# Altium integrated library Linear Technology Power Management LED Driver ICs.IntLib: 490 symbols (part 3 of 48)
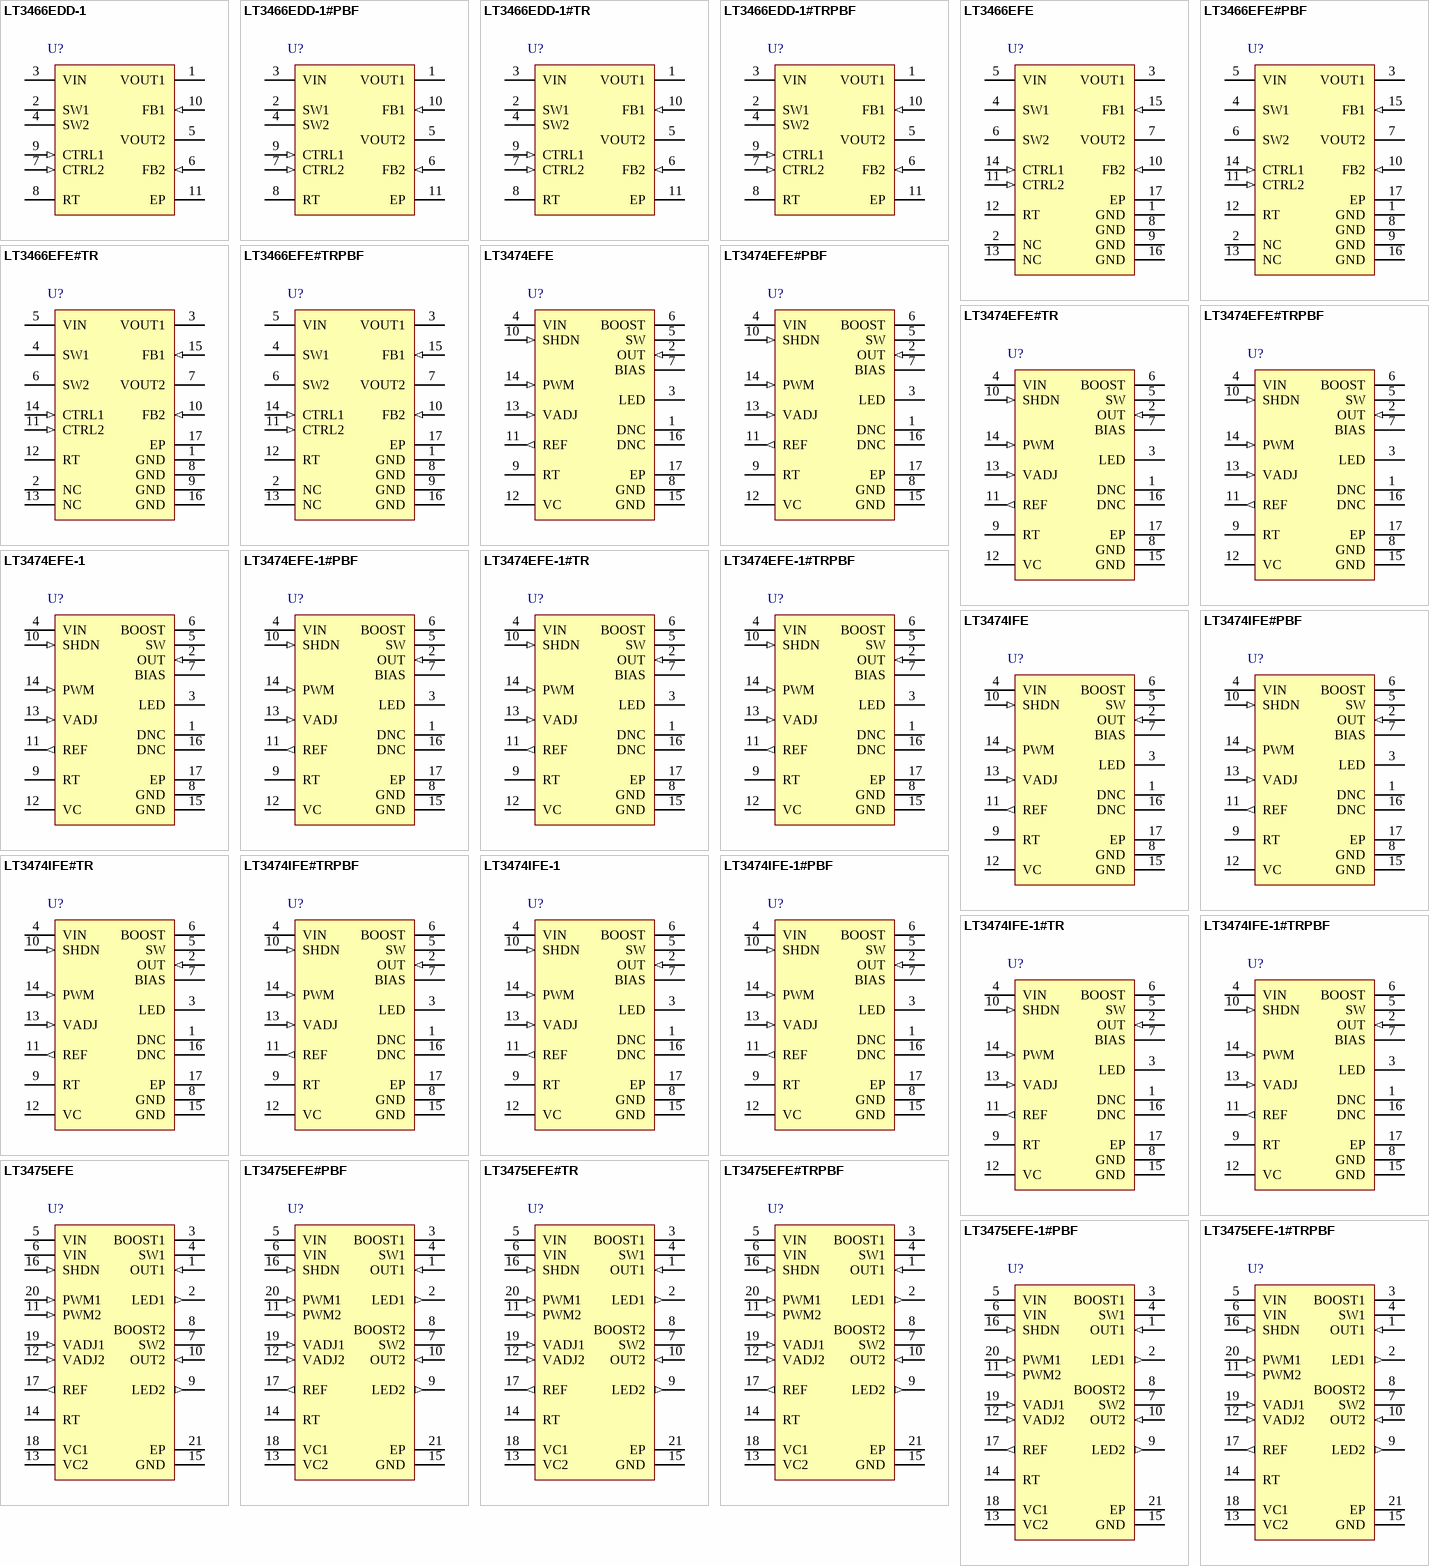
[diagram p22: symbols LT3466EDD-1 to LT3475EFE-1#TRPBF]

## LT3466EFE#PBF
designator U?
Dual Outputs / Integrated Schottky, Soft-Start, 2.7 to 24 V Vin, 39.5 V Vout MAX, 16-pin SOP (FE-16-EPV-BB), -40 to 85 degC, Pb-Free; Manufacturer: Linear Technology; PartNumber: LT3466EFE#PBF; Topology: Boost, LED Driver; Vin Min(V): 2.7; DatasheetVersion: Rev. A; PackageVersion: Rev. J, 11/2012; PackageReference: FE-16; PackageDescription: 16-Pin Plastic TSSOP, Body 5 x 4.4 mm, Pitch 0.65 mm; Supplier 1: Digi-Key; Supplier Part Number 1: LT3466EFE#PBF-ND; Supplier 2: Farnell; Supplier Part Number 2: 1226270; Supplier 3: Newark; Supplier Part Number 3: 57M8212; RoHS: TRUE; Mounting Technology: Surface Mount; ComponentLink1Description: Manufacturer URL; ComponentLink1URL: http://www.linear.com/; ComponentLink2Description: Datasheet; ComponentLink2URL: http://cds.linear.com/docs/en/datasheet/3466fa.pdf; ComponentLink3Description: Package Specification; ComponentLink3URL: http://cds.linear.com/docs/en/packaging/05081663__J_FE16(BB).pdf
footprint LT-FE-16-EPV-BB_N (SOP, 16-Leads, Body 5.1x4.5mm, Pitch 0.65mm, Thermal Pad 3.58x2.94mm, IPC Medium Density)
footprint LT-FE-16-EPV-BB_L (SOP, 16-Leads, Body 5.1x4.5mm, Pitch 0.65mm, Thermal Pad 3.58x2.94mm, IPC High Density)
footprint LT-FE-16-EPV-BB_M (SOP, 16-Leads, Body 5.1x4.5mm, Pitch 0.65mm, Thermal Pad 3.58x2.94mm, IPC Low Density)
pins: 1 GND (power) "These pins are internally fused to the Exposed Pad (TSSOP package only). Connect these GND pins and the Exposed Pad to the PCB system ground.", 2 NC, 3 VOUT1 (power) "Output of Converter 1. This pin is connected to the cathode of the internal Schottky diode. Connect an output capacitor from this pin to ground.", 4 SW1 "Switch Pin for Converter 1. Connect the inductor at this pin.", 5 VIN (power) "Input Supply Pin. Must be locally bypassed with a 1uF, X5R or X7R type ceramic capacitor.", 6 SW2 "Switch Pin for Converter 2. Connect the inductor at this pin.", 7 VOUT2 (power) "Output of Converter 2. This pin is connected to the cathode of the internal Schottky diode. Connect an output capacitor from this pin to ground.", 8 GND (power) "These pins are internally fused to the Exposed Pad (TSSOP package only). Connect these GND pins and the Exposed Pad to the PCB system ground.", 9 GND (power) "These pins are internally fused to the Exposed Pad (TSSOP package only). Connect these GND pins and the Exposed Pad to the PCB system ground.", 10 FB2 (in) "Feedback Pin for Converter 2. The nominal voltage at this pin is 200mV. Connect cathode of the lowest LED and the feedback resisitor at this pin.", 11 CTRL2 (in) "Dimming and Shutdown Pin for Converter 2. Connect this pin to ground to disable the converter. As the pin voltage is ramped from 0V to 1.6V, the LED current ramps from 0 to ILED2 (= 200mV/RFB2). Any voltage above 1.6V does (See Datasheet)", 12 RT "Timing Resistor to Program the Switching Frequency. The switching frequency can be programmed from 200KHz to 2MHz.", 13 NC, 14 CTRL1 (in) "Dimming and Shutdown Pin for Converter 1. Connect this pin to ground to disable the converter. As the pin voltage is ramped from 0V to 1.6V, the LED current ramps from 0 to ILED1 (= 200mV/RFB1). Any voltage above 1.6V does (See Datasheet)", 15 FB1 (in) "Feedback Pin for Converter 1. The nominal voltage at this pin is 200mV. Connect cathode of the lowest LED and the feedback resistor at this pin.", 16 GND (power) "These pins are internally fused to the Exposed Pad (TSSOP package only). Connect these GND pins and the Exposed Pad to the PCB system ground.", 17 EP (power) "The Exposed Pad must be soldered to the PCB system ground."

## LT3466EFE#TR
designator U?
Dual Outputs / Integrated Schottky, Soft-Start, 2.7 to 24 V Vin, 39.5 V Vout MAX, 16-pin SOP (FE-16-EPV-BB), -40 to 85 degC, Tape and Reel; Manufacturer: Linear Technology; PartNumber: LT3466EFE#TR; Topology: Boost, LED Driver; Vin Min(V): 2.7; DatasheetVersion: Rev. A; PackageVersion: Rev. J, 11/2012; PackageReference: FE-16; PackageDescription: 16-Pin Plastic TSSOP, Body 5 x 4.4 mm, Pitch 0.65 mm; Packing: Tape and Reel; RoHS: FALSE; Mounting Technology: Surface Mount; ComponentLink1Description: Manufacturer URL; ComponentLink1URL: http://www.linear.com/; ComponentLink2Description: Datasheet; ComponentLink2URL: http://cds.linear.com/docs/en/datasheet/3466fa.pdf; ComponentLink3Description: Package Specification; ComponentLink3URL: http://cds.linear.com/docs/en/packaging/05081663__J_FE16(BB).pdf
footprint LT-FE-16-EPV-BB_N (SOP, 16-Leads, Body 5.1x4.5mm, Pitch 0.65mm, Thermal Pad 3.58x2.94mm, IPC Medium Density)
footprint LT-FE-16-EPV-BB_L (SOP, 16-Leads, Body 5.1x4.5mm, Pitch 0.65mm, Thermal Pad 3.58x2.94mm, IPC High Density)
footprint LT-FE-16-EPV-BB_M (SOP, 16-Leads, Body 5.1x4.5mm, Pitch 0.65mm, Thermal Pad 3.58x2.94mm, IPC Low Density)
pins: 1 GND (power) "These pins are internally fused to the Exposed Pad (TSSOP package only). Connect these GND pins and the Exposed Pad to the PCB system ground.", 2 NC, 3 VOUT1 (power) "Output of Converter 1. This pin is connected to the cathode of the internal Schottky diode. Connect an output capacitor from this pin to ground.", 4 SW1 "Switch Pin for Converter 1. Connect the inductor at this pin.", 5 VIN (power) "Input Supply Pin. Must be locally bypassed with a 1uF, X5R or X7R type ceramic capacitor.", 6 SW2 "Switch Pin for Converter 2. Connect the inductor at this pin.", 7 VOUT2 (power) "Output of Converter 2. This pin is connected to the cathode of the internal Schottky diode. Connect an output capacitor from this pin to ground.", 8 GND (power) "These pins are internally fused to the Exposed Pad (TSSOP package only). Connect these GND pins and the Exposed Pad to the PCB system ground.", 9 GND (power) "These pins are internally fused to the Exposed Pad (TSSOP package only). Connect these GND pins and the Exposed Pad to the PCB system ground.", 10 FB2 (in) "Feedback Pin for Converter 2. The nominal voltage at this pin is 200mV. Connect cathode of the lowest LED and the feedback resisitor at this pin.", 11 CTRL2 (in) "Dimming and Shutdown Pin for Converter 2. Connect this pin to ground to disable the converter. As the pin voltage is ramped from 0V to 1.6V, the LED current ramps from 0 to ILED2 (= 200mV/RFB2). Any voltage above 1.6V does (See Datasheet)", 12 RT "Timing Resistor to Program the Switching Frequency. The switching frequency can be programmed from 200KHz to 2MHz.", 13 NC, 14 CTRL1 (in) "Dimming and Shutdown Pin for Converter 1. Connect this pin to ground to disable the converter. As the pin voltage is ramped from 0V to 1.6V, the LED current ramps from 0 to ILED1 (= 200mV/RFB1). Any voltage above 1.6V does (See Datasheet)", 15 FB1 (in) "Feedback Pin for Converter 1. The nominal voltage at this pin is 200mV. Connect cathode of the lowest LED and the feedback resistor at this pin.", 16 GND (power) "These pins are internally fused to the Exposed Pad (TSSOP package only). Connect these GND pins and the Exposed Pad to the PCB system ground.", 17 EP (power) "The Exposed Pad must be soldered to the PCB system ground."

## LT3466EFE#TRPBF
designator U?
Dual Outputs / Integrated Schottky, Soft-Start, 2.7 to 24 V Vin, 39.5 V Vout MAX, 16-pin SOP (FE-16-EPV-BB), -40 to 85 degC, Pb-Free, Tape and Reel; Manufacturer: Linear Technology; PartNumber: LT3466EFE#TRPBF; Topology: Boost, LED Driver; Vin Min(V): 2.7; DatasheetVersion: Rev. A; PackageVersion: Rev. J, 11/2012; PackageReference: FE-16; PackageDescription: 16-Pin Plastic TSSOP, Body 5 x 4.4 mm, Pitch 0.65 mm; Supplier 1: Digi-Key; Supplier Part Number 1: LT3466EFE#TRPBF-ND; Supplier 2: Newark; Supplier Part Number 2: 57M8214; Packing: Tape and Reel; RoHS: TRUE; Mounting Technology: Surface Mount; ComponentLink1Description: Manufacturer URL; ComponentLink1URL: http://www.linear.com/; ComponentLink2Description: Datasheet; ComponentLink2URL: http://cds.linear.com/docs/en/datasheet/3466fa.pdf; ComponentLink3Description: Package Specification; ComponentLink3URL: http://cds.linear.com/docs/en/packaging/05081663__J_FE16(BB).pdf
footprint LT-FE-16-EPV-BB_N (SOP, 16-Leads, Body 5.1x4.5mm, Pitch 0.65mm, Thermal Pad 3.58x2.94mm, IPC Medium Density)
footprint LT-FE-16-EPV-BB_L (SOP, 16-Leads, Body 5.1x4.5mm, Pitch 0.65mm, Thermal Pad 3.58x2.94mm, IPC High Density)
footprint LT-FE-16-EPV-BB_M (SOP, 16-Leads, Body 5.1x4.5mm, Pitch 0.65mm, Thermal Pad 3.58x2.94mm, IPC Low Density)
pins: 1 GND (power) "These pins are internally fused to the Exposed Pad (TSSOP package only). Connect these GND pins and the Exposed Pad to the PCB system ground.", 2 NC, 3 VOUT1 (power) "Output of Converter 1. This pin is connected to the cathode of the internal Schottky diode. Connect an output capacitor from this pin to ground.", 4 SW1 "Switch Pin for Converter 1. Connect the inductor at this pin.", 5 VIN (power) "Input Supply Pin. Must be locally bypassed with a 1uF, X5R or X7R type ceramic capacitor.", 6 SW2 "Switch Pin for Converter 2. Connect the inductor at this pin.", 7 VOUT2 (power) "Output of Converter 2. This pin is connected to the cathode of the internal Schottky diode. Connect an output capacitor from this pin to ground.", 8 GND (power) "These pins are internally fused to the Exposed Pad (TSSOP package only). Connect these GND pins and the Exposed Pad to the PCB system ground.", 9 GND (power) "These pins are internally fused to the Exposed Pad (TSSOP package only). Connect these GND pins and the Exposed Pad to the PCB system ground.", 10 FB2 (in) "Feedback Pin for Converter 2. The nominal voltage at this pin is 200mV. Connect cathode of the lowest LED and the feedback resisitor at this pin.", 11 CTRL2 (in) "Dimming and Shutdown Pin for Converter 2. Connect this pin to ground to disable the converter. As the pin voltage is ramped from 0V to 1.6V, the LED current ramps from 0 to ILED2 (= 200mV/RFB2). Any voltage above 1.6V does (See Datasheet)", 12 RT "Timing Resistor to Program the Switching Frequency. The switching frequency can be programmed from 200KHz to 2MHz.", 13 NC, 14 CTRL1 (in) "Dimming and Shutdown Pin for Converter 1. Connect this pin to ground to disable the converter. As the pin voltage is ramped from 0V to 1.6V, the LED current ramps from 0 to ILED1 (= 200mV/RFB1). Any voltage above 1.6V does (See Datasheet)", 15 FB1 (in) "Feedback Pin for Converter 1. The nominal voltage at this pin is 200mV. Connect cathode of the lowest LED and the feedback resistor at this pin.", 16 GND (power) "These pins are internally fused to the Exposed Pad (TSSOP package only). Connect these GND pins and the Exposed Pad to the PCB system ground.", 17 EP (power) "The Exposed Pad must be soldered to the PCB system ground."

## LT3474EFE
designator U?
Step-Down 1 A LED Driver with Open Circuit Protection, 4 to 36 V Vin, 15 V Vout MAX, 16-pin SOP (FE-16-EPV-BA), -40 to 85 degC; Manufacturer: Linear Technology; PartNumber: LT3474EFE; Topology: Buck, LED Driver; Vin Min(V): 4; DatasheetVersion: Rev. D; PackageVersion: Rev. I, 05/2011; PackageReference: FE-16; PackageDescription: 16-Pin Plastic TSSOP, Body 5 x 4.4 mm, Pitch 0.65 mm; RoHS: FALSE; Mounting Technology: Surface Mount; ComponentLink1Description: Manufacturer URL; ComponentLink1URL: http://www.linear.com/; ComponentLink2Description: Datasheet; ComponentLink2URL: http://cds.linear.com/docs/en/datasheet/3474fd.pdf; ComponentLink3Description: Package Specification; ComponentLink3URL: http://cds.linear.com/docs/en/packaging/05081663_J_FE16(BA).pdf
footprint LT-FE-16-EPV-BA_N (SOP, 16-Leads, Body 5x4.4mm, Pitch 0.65mm, Thermal Pad 2.74x2.74mm, IPC Medium Density)
footprint LT-FE-16-EPV-BA_L (SOP, 16-Leads, Body 5x4.4mm, Pitch 0.65mm, Thermal Pad 2.74x2.74mm, IPC High Density)
footprint LT-FE-16-EPV-BA_M (SOP, 16-Leads, Body 5x4.4mm, Pitch 0.65mm, Thermal Pad 2.74x2.74mm, IPC Low Density)
pins: 1 DNC "Do not connect external circuitry to these pins, or tie them to GND. Leave the DNC pins floating.", 2 OUT (in) "The OUT pin is the input to the current sense resistor. Connect this pin to the inductor and the output capacitor.", 3 LED (power) "The LED pin is the output of the current sense resistor. Connect the anode of the LED here.", 4 VIN (power) "The VIN pin supplies current to the internal circuitry and to the internal power switch and must be locally bypassed.", 5 SW (power) "The SW pin is the output of the internal power switch. Connect this pin to the inductor and switching diode.", 6 BOOST "The BOOST pin is used to provide a drive voltage, higher than the input voltage, to the internal bipolar NPN power switch.", 7 BIAS (power) "The BIAS pin connects through a Schottky diode to BOOST. Tie to OUT.", 8 GND (power) "Ground. Tie both GND pins and the Exposed Pad directly to the ground plane. The Exposed Pad metal of the package provides both electrical contact to ground and good thermal contact to the printed circuit board. It must be (See Datasheet)", 9 RT "The RT pin is used to set the internal oscillator frequency. Tie an 80.6k resistor from RT to GND for a 500kHz switching frequency", 10 SHDN (in) "The SHDN pin is used to shut down the switching regulator and the internal bias circuits. The 2.6V switching threshold can function as an accurate under-voltage lockout. Pull below 0.3V to shut down the LT3474/LT3474-1. Pull (See Datasheet)", 11 REF (out) "The REF pin is the buffered output of the internal reference. Either tie the REF pin to the VADJ pin for a 1A output current, or use a resistor divider to generate a lower voltage at the VADJ pin. Leave this pin unconnected (See Datasheet)", 12 VC "The Vc pin is the output of the internal error amp. The voltage on this pin controls the peak switch current. Use this pin to compensate the control loop.", 13 VADJ (in) "The VADJ pin is the input to the internal voltage to current amplifier. Connect the VADJ pin to the REF pin for a 1A output current. For lower output currents, program the VADJ pin using the following formula: ILED = 1A ?(See Datasheet)", 14 PWM (in) "The PWM pin controls the connection of the VC pin to the internal circuitry. When the PWM pin is low, the VC pin is disconnected from the internal circuitry and draws minimal current. If the PWM feature is unused, leave this (See Datasheet)", 15 GND (power) "Ground. Tie both GND pins and the Exposed Pad directly to the ground plane. The Exposed Pad metal of the package provides both electrical contact to ground and good thermal contact to the printed circuit board. It must be (See Datasheet)", 16 DNC "Do not connect external circuitry to these pins, or tie them to GND. Leave the DNC pins floating.", 17 EP (power)

## LT3474EFE#PBF
designator U?
Step-Down 1 A LED Driver with Open Circuit Protection, 4 to 36 V Vin, 15 V Vout MAX, 16-pin SOP (FE-16-EPV-BA), -40 to 85 degC, Pb-Free; Manufacturer: Linear Technology; PartNumber: LT3474EFE#PBF; Topology: Buck, LED Driver; Vin Min(V): 4; DatasheetVersion: Rev. D; PackageVersion: Rev. I, 05/2011; PackageReference: FE-16; PackageDescription: 16-Pin Plastic TSSOP, Body 5 x 4.4 mm, Pitch 0.65 mm; Supplier 1: Digi-Key; Supplier Part Number 1: LT3474EFE#PBF-ND; Supplier 2: Farnell; Supplier Part Number 2: 1226271; Supplier 3: Newark; Supplier Part Number 3: 57M8286; RoHS: TRUE; Mounting Technology: Surface Mount; ComponentLink1Description: Manufacturer URL; ComponentLink1URL: http://www.linear.com/; ComponentLink2Description: Datasheet; ComponentLink2URL: http://cds.linear.com/docs/en/datasheet/3474fd.pdf; ComponentLink3Description: Package Specification; ComponentLink3URL: http://cds.linear.com/docs/en/packaging/05081663_J_FE16(BA).pdf
footprint LT-FE-16-EPV-BA_N (SOP, 16-Leads, Body 5x4.4mm, Pitch 0.65mm, Thermal Pad 2.74x2.74mm, IPC Medium Density)
footprint LT-FE-16-EPV-BA_L (SOP, 16-Leads, Body 5x4.4mm, Pitch 0.65mm, Thermal Pad 2.74x2.74mm, IPC High Density)
footprint LT-FE-16-EPV-BA_M (SOP, 16-Leads, Body 5x4.4mm, Pitch 0.65mm, Thermal Pad 2.74x2.74mm, IPC Low Density)
pins: 1 DNC "Do not connect external circuitry to these pins, or tie them to GND. Leave the DNC pins floating.", 2 OUT (in) "The OUT pin is the input to the current sense resistor. Connect this pin to the inductor and the output capacitor.", 3 LED (power) "The LED pin is the output of the current sense resistor. Connect the anode of the LED here.", 4 VIN (power) "The VIN pin supplies current to the internal circuitry and to the internal power switch and must be locally bypassed.", 5 SW (power) "The SW pin is the output of the internal power switch. Connect this pin to the inductor and switching diode.", 6 BOOST "The BOOST pin is used to provide a drive voltage, higher than the input voltage, to the internal bipolar NPN power switch.", 7 BIAS (power) "The BIAS pin connects through a Schottky diode to BOOST. Tie to OUT.", 8 GND (power) "Ground. Tie both GND pins and the Exposed Pad directly to the ground plane. The Exposed Pad metal of the package provides both electrical contact to ground and good thermal contact to the printed circuit board. It must be (See Datasheet)", 9 RT "The RT pin is used to set the internal oscillator frequency. Tie an 80.6k resistor from RT to GND for a 500kHz switching frequency", 10 SHDN (in) "The SHDN pin is used to shut down the switching regulator and the internal bias circuits. The 2.6V switching threshold can function as an accurate under-voltage lockout. Pull below 0.3V to shut down the LT3474/LT3474-1. Pull (See Datasheet)", 11 REF (out) "The REF pin is the buffered output of the internal reference. Either tie the REF pin to the VADJ pin for a 1A output current, or use a resistor divider to generate a lower voltage at the VADJ pin. Leave this pin unconnected (See Datasheet)", 12 VC "The Vc pin is the output of the internal error amp. The voltage on this pin controls the peak switch current. Use this pin to compensate the control loop.", 13 VADJ (in) "The VADJ pin is the input to the internal voltage to current amplifier. Connect the VADJ pin to the REF pin for a 1A output current. For lower output currents, program the VADJ pin using the following formula: ILED = 1A ?(See Datasheet)", 14 PWM (in) "The PWM pin controls the connection of the VC pin to the internal circuitry. When the PWM pin is low, the VC pin is disconnected from the internal circuitry and draws minimal current. If the PWM feature is unused, leave this (See Datasheet)", 15 GND (power) "Ground. Tie both GND pins and the Exposed Pad directly to the ground plane. The Exposed Pad metal of the package provides both electrical contact to ground and good thermal contact to the printed circuit board. It must be (See Datasheet)", 16 DNC "Do not connect external circuitry to these pins, or tie them to GND. Leave the DNC pins floating.", 17 EP (power)

## LT3474EFE#TR
designator U?
Step-Down 1 A LED Driver with Open Circuit Protection, 4 to 36 V Vin, 15 V Vout MAX, 16-pin SOP (FE-16-EPV-BA), -40 to 85 degC, Tape and Reel; Manufacturer: Linear Technology; PartNumber: LT3474EFE#TR; Topology: Buck, LED Driver; Vin Min(V): 4; DatasheetVersion: Rev. D; PackageVersion: Rev. I, 05/2011; PackageReference: FE-16; PackageDescription: 16-Pin Plastic TSSOP, Body 5 x 4.4 mm, Pitch 0.65 mm; Packing: Tape and Reel; RoHS: FALSE; Mounting Technology: Surface Mount; ComponentLink1Description: Manufacturer URL; ComponentLink1URL: http://www.linear.com/; ComponentLink2Description: Datasheet; ComponentLink2URL: http://cds.linear.com/docs/en/datasheet/3474fd.pdf; ComponentLink3Description: Package Specification; ComponentLink3URL: http://cds.linear.com/docs/en/packaging/05081663_J_FE16(BA).pdf
footprint LT-FE-16-EPV-BA_N (SOP, 16-Leads, Body 5x4.4mm, Pitch 0.65mm, Thermal Pad 2.74x2.74mm, IPC Medium Density)
footprint LT-FE-16-EPV-BA_L (SOP, 16-Leads, Body 5x4.4mm, Pitch 0.65mm, Thermal Pad 2.74x2.74mm, IPC High Density)
footprint LT-FE-16-EPV-BA_M (SOP, 16-Leads, Body 5x4.4mm, Pitch 0.65mm, Thermal Pad 2.74x2.74mm, IPC Low Density)
pins: 1 DNC "Do not connect external circuitry to these pins, or tie them to GND. Leave the DNC pins floating.", 2 OUT (in) "The OUT pin is the input to the current sense resistor. Connect this pin to the inductor and the output capacitor.", 3 LED (power) "The LED pin is the output of the current sense resistor. Connect the anode of the LED here.", 4 VIN (power) "The VIN pin supplies current to the internal circuitry and to the internal power switch and must be locally bypassed.", 5 SW (power) "The SW pin is the output of the internal power switch. Connect this pin to the inductor and switching diode.", 6 BOOST "The BOOST pin is used to provide a drive voltage, higher than the input voltage, to the internal bipolar NPN power switch.", 7 BIAS (power) "The BIAS pin connects through a Schottky diode to BOOST. Tie to OUT.", 8 GND (power) "Ground. Tie both GND pins and the Exposed Pad directly to the ground plane. The Exposed Pad metal of the package provides both electrical contact to ground and good thermal contact to the printed circuit board. It must be (See Datasheet)", 9 RT "The RT pin is used to set the internal oscillator frequency. Tie an 80.6k resistor from RT to GND for a 500kHz switching frequency", 10 SHDN (in) "The SHDN pin is used to shut down the switching regulator and the internal bias circuits. The 2.6V switching threshold can function as an accurate under-voltage lockout. Pull below 0.3V to shut down the LT3474/LT3474-1. Pull (See Datasheet)", 11 REF (out) "The REF pin is the buffered output of the internal reference. Either tie the REF pin to the VADJ pin for a 1A output current, or use a resistor divider to generate a lower voltage at the VADJ pin. Leave this pin unconnected (See Datasheet)", 12 VC "The Vc pin is the output of the internal error amp. The voltage on this pin controls the peak switch current. Use this pin to compensate the control loop.", 13 VADJ (in) "The VADJ pin is the input to the internal voltage to current amplifier. Connect the VADJ pin to the REF pin for a 1A output current. For lower output currents, program the VADJ pin using the following formula: ILED = 1A ?(See Datasheet)", 14 PWM (in) "The PWM pin controls the connection of the VC pin to the internal circuitry. When the PWM pin is low, the VC pin is disconnected from the internal circuitry and draws minimal current. If the PWM feature is unused, leave this (See Datasheet)", 15 GND (power) "Ground. Tie both GND pins and the Exposed Pad directly to the ground plane. The Exposed Pad metal of the package provides both electrical contact to ground and good thermal contact to the printed circuit board. It must be (See Datasheet)", 16 DNC "Do not connect external circuitry to these pins, or tie them to GND. Leave the DNC pins floating.", 17 EP (power)

## LT3474EFE#TRPBF
designator U?
Step-Down 1 A LED Driver with Open Circuit Protection, 4 to 36 V Vin, 15 V Vout MAX, 16-pin SOP (FE-16-EPV-BA), -40 to 85 degC, Pb-Free, Tape and Reel; Manufacturer: Linear Technology; PartNumber: LT3474EFE#TRPBF; Topology: Buck, LED Driver; Vin Min(V): 4; DatasheetVersion: Rev. D; PackageVersion: Rev. I, 05/2011; PackageReference: FE-16; PackageDescription: 16-Pin Plastic TSSOP, Body 5 x 4.4 mm, Pitch 0.65 mm; Supplier 1: Digi-Key; Supplier Part Number 1: LT3474EFE#TRPBFTR-ND; Supplier 2: Digi-Key; Supplier Part Number 2: LT3474EFE#TRPBFCT-ND; Supplier 3: Digi-Key; Supplier Part Number 3: LT3474EFE#TRPBFDKR-ND; Supplier 4: Newark; Supplier Part Number 4: 57M8288; Packing: Tape and Reel; RoHS: TRUE; Mounting Technology: Surface Mount; ComponentLink1Description: Manufacturer URL; ComponentLink1URL: http://www.linear.com/; ComponentLink2Description: Datasheet; ComponentLink2URL: http://cds.linear.com/docs/en/datasheet/3474fd.pdf; ComponentLink3Description: Package Specification; ComponentLink3URL: http://cds.linear.com/docs/en/packaging/05081663_J_FE16(BA).pdf
footprint LT-FE-16-EPV-BA_N (SOP, 16-Leads, Body 5x4.4mm, Pitch 0.65mm, Thermal Pad 2.74x2.74mm, IPC Medium Density)
footprint LT-FE-16-EPV-BA_L (SOP, 16-Leads, Body 5x4.4mm, Pitch 0.65mm, Thermal Pad 2.74x2.74mm, IPC High Density)
footprint LT-FE-16-EPV-BA_M (SOP, 16-Leads, Body 5x4.4mm, Pitch 0.65mm, Thermal Pad 2.74x2.74mm, IPC Low Density)
pins: 1 DNC "Do not connect external circuitry to these pins, or tie them to GND. Leave the DNC pins floating.", 2 OUT (in) "The OUT pin is the input to the current sense resistor. Connect this pin to the inductor and the output capacitor.", 3 LED (power) "The LED pin is the output of the current sense resistor. Connect the anode of the LED here.", 4 VIN (power) "The VIN pin supplies current to the internal circuitry and to the internal power switch and must be locally bypassed.", 5 SW (power) "The SW pin is the output of the internal power switch. Connect this pin to the inductor and switching diode.", 6 BOOST "The BOOST pin is used to provide a drive voltage, higher than the input voltage, to the internal bipolar NPN power switch.", 7 BIAS (power) "The BIAS pin connects through a Schottky diode to BOOST. Tie to OUT.", 8 GND (power) "Ground. Tie both GND pins and the Exposed Pad directly to the ground plane. The Exposed Pad metal of the package provides both electrical contact to ground and good thermal contact to the printed circuit board. It must be (See Datasheet)", 9 RT "The RT pin is used to set the internal oscillator frequency. Tie an 80.6k resistor from RT to GND for a 500kHz switching frequency", 10 SHDN (in) "The SHDN pin is used to shut down the switching regulator and the internal bias circuits. The 2.6V switching threshold can function as an accurate under-voltage lockout. Pull below 0.3V to shut down the LT3474/LT3474-1. Pull (See Datasheet)", 11 REF (out) "The REF pin is the buffered output of the internal reference. Either tie the REF pin to the VADJ pin for a 1A output current, or use a resistor divider to generate a lower voltage at the VADJ pin. Leave this pin unconnected (See Datasheet)", 12 VC "The Vc pin is the output of the internal error amp. The voltage on this pin controls the peak switch current. Use this pin to compensate the control loop.", 13 VADJ (in) "The VADJ pin is the input to the internal voltage to current amplifier. Connect the VADJ pin to the REF pin for a 1A output current. For lower output currents, program the VADJ pin using the following formula: ILED = 1A ?(See Datasheet)", 14 PWM (in) "The PWM pin controls the connection of the VC pin to the internal circuitry. When the PWM pin is low, the VC pin is disconnected from the internal circuitry and draws minimal current. If the PWM feature is unused, leave this (See Datasheet)", 15 GND (power) "Ground. Tie both GND pins and the Exposed Pad directly to the ground plane. The Exposed Pad metal of the package provides both electrical contact to ground and good thermal contact to the printed circuit board. It must be (See Datasheet)", 16 DNC "Do not connect external circuitry to these pins, or tie them to GND. Leave the DNC pins floating.", 17 EP (power)

## LT3474EFE-1
designator U?
Step-Down 1 A LED Driver, No Open Circuit Protection, 4 to 36 V Vin, 26 V Vout MAX, 16-pin SOP (FE-16-EPV-BA), -40 to 85 degC; Manufacturer: Linear Technology; PartNumber: LT3474EFE-1; Topology: Buck, LED Driver; Vin Min(V): 4; DatasheetVersion: Rev. D; PackageVersion: Rev. I, 05/2011; PackageReference: FE-16; PackageDescription: 16-Pin Plastic TSSOP, Body 5 x 4.4 mm, Pitch 0.65 mm; RoHS: FALSE; Mounting Technology: Surface Mount; ComponentLink1Description: Manufacturer URL; ComponentLink1URL: http://www.linear.com/; ComponentLink2Description: Datasheet; ComponentLink2URL: http://cds.linear.com/docs/en/datasheet/3474fd.pdf; ComponentLink3Description: Package Specification; ComponentLink3URL: http://cds.linear.com/docs/en/packaging/05081663_J_FE16(BA).pdf
footprint LT-FE-16-EPV-BA_N (SOP, 16-Leads, Body 5x4.4mm, Pitch 0.65mm, Thermal Pad 2.74x2.74mm, IPC Medium Density)
footprint LT-FE-16-EPV-BA_L (SOP, 16-Leads, Body 5x4.4mm, Pitch 0.65mm, Thermal Pad 2.74x2.74mm, IPC High Density)
footprint LT-FE-16-EPV-BA_M (SOP, 16-Leads, Body 5x4.4mm, Pitch 0.65mm, Thermal Pad 2.74x2.74mm, IPC Low Density)
pins: 1 DNC "Do not connect external circuitry to these pins, or tie them to GND. Leave the DNC pins floating.", 2 OUT (in) "The OUT pin is the input to the current sense resistor. Connect this pin to the inductor and the output capacitor.", 3 LED (power) "The LED pin is the output of the current sense resistor. Connect the anode of the LED here.", 4 VIN (power) "The VIN pin supplies current to the internal circuitry and to the internal power switch and must be locally bypassed.", 5 SW (power) "The SW pin is the output of the internal power switch. Connect this pin to the inductor and switching diode.", 6 BOOST "The BOOST pin is used to provide a drive voltage, higher than the input voltage, to the internal bipolar NPN power switch.", 7 BIAS (power) "The BIAS pin connects through a Schottky diode to BOOST. Tie to OUT.", 8 GND (power) "Ground. Tie both GND pins and the Exposed Pad directly to the ground plane. The Exposed Pad metal of the package provides both electrical contact to ground and good thermal contact to the printed circuit board. It must be (See Datasheet)", 9 RT "The RT pin is used to set the internal oscillator frequency. Tie an 80.6k resistor from RT to GND for a 500kHz switching frequency", 10 SHDN (in) "The SHDN pin is used to shut down the switching regulator and the internal bias circuits. The 2.6V switching threshold can function as an accurate under-voltage lockout. Pull below 0.3V to shut down the LT3474/LT3474-1. Pull (See Datasheet)", 11 REF (out) "The REF pin is the buffered output of the internal reference. Either tie the REF pin to the VADJ pin for a 1A output current, or use a resistor divider to generate a lower voltage at the VADJ pin. Leave this pin unconnected (See Datasheet)", 12 VC "The Vc pin is the output of the internal error amp. The voltage on this pin controls the peak switch current. Use this pin to compensate the control loop.", 13 VADJ (in) "The VADJ pin is the input to the internal voltage to current amplifier. Connect the VADJ pin to the REF pin for a 1A output current. For lower output currents, program the VADJ pin using the following formula: ILED = 1A ?(See Datasheet)", 14 PWM (in) "The PWM pin controls the connection of the VC pin to the internal circuitry. When the PWM pin is low, the VC pin is disconnected from the internal circuitry and draws minimal current. If the PWM feature is unused, leave this (See Datasheet)", 15 GND (power) "Ground. Tie both GND pins and the Exposed Pad directly to the ground plane. The Exposed Pad metal of the package provides both electrical contact to ground and good thermal contact to the printed circuit board. It must be (See Datasheet)", 16 DNC "Do not connect external circuitry to these pins, or tie them to GND. Leave the DNC pins floating.", 17 EP (power)

## LT3474EFE-1#PBF
designator U?
Step-Down 1 A LED Driver, No Open Circuit Protection, 4 to 36 V Vin, 26 V Vout MAX, 16-pin SOP (FE-16-EPV-BA), -40 to 85 degC, Pb-Free; Manufacturer: Linear Technology; PartNumber: LT3474EFE-1#PBF; Topology: Buck, LED Driver; Vin Min(V): 4; DatasheetVersion: Rev. D; PackageVersion: Rev. I, 05/2011; PackageReference: FE-16; PackageDescription: 16-Pin Plastic TSSOP, Body 5 x 4.4 mm, Pitch 0.65 mm; Supplier 1: Digi-Key; Supplier Part Number 1: LT3474EFE-1#PBF-ND; Supplier 2: Farnell; Supplier Part Number 2: 2293069; Supplier 3: Newark; Supplier Part Number 3: 75M4726; RoHS: TRUE; Mounting Technology: Surface Mount; ComponentLink1Description: Manufacturer URL; ComponentLink1URL: http://www.linear.com/; ComponentLink2Description: Datasheet; ComponentLink2URL: http://cds.linear.com/docs/en/datasheet/3474fd.pdf; ComponentLink3Description: Package Specification; ComponentLink3URL: http://cds.linear.com/docs/en/packaging/05081663_J_FE16(BA).pdf
footprint LT-FE-16-EPV-BA_N (SOP, 16-Leads, Body 5x4.4mm, Pitch 0.65mm, Thermal Pad 2.74x2.74mm, IPC Medium Density)
footprint LT-FE-16-EPV-BA_L (SOP, 16-Leads, Body 5x4.4mm, Pitch 0.65mm, Thermal Pad 2.74x2.74mm, IPC High Density)
footprint LT-FE-16-EPV-BA_M (SOP, 16-Leads, Body 5x4.4mm, Pitch 0.65mm, Thermal Pad 2.74x2.74mm, IPC Low Density)
pins: 1 DNC "Do not connect external circuitry to these pins, or tie them to GND. Leave the DNC pins floating.", 2 OUT (in) "The OUT pin is the input to the current sense resistor. Connect this pin to the inductor and the output capacitor.", 3 LED (power) "The LED pin is the output of the current sense resistor. Connect the anode of the LED here.", 4 VIN (power) "The VIN pin supplies current to the internal circuitry and to the internal power switch and must be locally bypassed.", 5 SW (power) "The SW pin is the output of the internal power switch. Connect this pin to the inductor and switching diode.", 6 BOOST "The BOOST pin is used to provide a drive voltage, higher than the input voltage, to the internal bipolar NPN power switch.", 7 BIAS (power) "The BIAS pin connects through a Schottky diode to BOOST. Tie to OUT.", 8 GND (power) "Ground. Tie both GND pins and the Exposed Pad directly to the ground plane. The Exposed Pad metal of the package provides both electrical contact to ground and good thermal contact to the printed circuit board. It must be (See Datasheet)", 9 RT "The RT pin is used to set the internal oscillator frequency. Tie an 80.6k resistor from RT to GND for a 500kHz switching frequency", 10 SHDN (in) "The SHDN pin is used to shut down the switching regulator and the internal bias circuits. The 2.6V switching threshold can function as an accurate under-voltage lockout. Pull below 0.3V to shut down the LT3474/LT3474-1. Pull (See Datasheet)", 11 REF (out) "The REF pin is the buffered output of the internal reference. Either tie the REF pin to the VADJ pin for a 1A output current, or use a resistor divider to generate a lower voltage at the VADJ pin. Leave this pin unconnected (See Datasheet)", 12 VC "The Vc pin is the output of the internal error amp. The voltage on this pin controls the peak switch current. Use this pin to compensate the control loop.", 13 VADJ (in) "The VADJ pin is the input to the internal voltage to current amplifier. Connect the VADJ pin to the REF pin for a 1A output current. For lower output currents, program the VADJ pin using the following formula: ILED = 1A ?(See Datasheet)", 14 PWM (in) "The PWM pin controls the connection of the VC pin to the internal circuitry. When the PWM pin is low, the VC pin is disconnected from the internal circuitry and draws minimal current. If the PWM feature is unused, leave this (See Datasheet)", 15 GND (power) "Ground. Tie both GND pins and the Exposed Pad directly to the ground plane. The Exposed Pad metal of the package provides both electrical contact to ground and good thermal contact to the printed circuit board. It must be (See Datasheet)", 16 DNC "Do not connect external circuitry to these pins, or tie them to GND. Leave the DNC pins floating.", 17 EP (power)

## LT3474EFE-1#TR
designator U?
Step-Down 1 A LED Driver, No Open Circuit Protection, 4 to 36 V Vin, 26 V Vout MAX, 16-pin SOP (FE-16-EPV-BA), -40 to 85 degC, Tape and Reel; Manufacturer: Linear Technology; PartNumber: LT3474EFE-1#TR; Topology: Buck, LED Driver; Vin Min(V): 4; DatasheetVersion: Rev. D; PackageVersion: Rev. I, 05/2011; PackageReference: FE-16; PackageDescription: 16-Pin Plastic TSSOP, Body 5 x 4.4 mm, Pitch 0.65 mm; Packing: Tape and Reel; RoHS: FALSE; Mounting Technology: Surface Mount; ComponentLink1Description: Manufacturer URL; ComponentLink1URL: http://www.linear.com/; ComponentLink2Description: Datasheet; ComponentLink2URL: http://cds.linear.com/docs/en/datasheet/3474fd.pdf; ComponentLink3Description: Package Specification; ComponentLink3URL: http://cds.linear.com/docs/en/packaging/05081663_J_FE16(BA).pdf
footprint LT-FE-16-EPV-BA_N (SOP, 16-Leads, Body 5x4.4mm, Pitch 0.65mm, Thermal Pad 2.74x2.74mm, IPC Medium Density)
footprint LT-FE-16-EPV-BA_L (SOP, 16-Leads, Body 5x4.4mm, Pitch 0.65mm, Thermal Pad 2.74x2.74mm, IPC High Density)
footprint LT-FE-16-EPV-BA_M (SOP, 16-Leads, Body 5x4.4mm, Pitch 0.65mm, Thermal Pad 2.74x2.74mm, IPC Low Density)
pins: 1 DNC "Do not connect external circuitry to these pins, or tie them to GND. Leave the DNC pins floating.", 2 OUT (in) "The OUT pin is the input to the current sense resistor. Connect this pin to the inductor and the output capacitor.", 3 LED (power) "The LED pin is the output of the current sense resistor. Connect the anode of the LED here.", 4 VIN (power) "The VIN pin supplies current to the internal circuitry and to the internal power switch and must be locally bypassed.", 5 SW (power) "The SW pin is the output of the internal power switch. Connect this pin to the inductor and switching diode.", 6 BOOST "The BOOST pin is used to provide a drive voltage, higher than the input voltage, to the internal bipolar NPN power switch.", 7 BIAS (power) "The BIAS pin connects through a Schottky diode to BOOST. Tie to OUT.", 8 GND (power) "Ground. Tie both GND pins and the Exposed Pad directly to the ground plane. The Exposed Pad metal of the package provides both electrical contact to ground and good thermal contact to the printed circuit board. It must be (See Datasheet)", 9 RT "The RT pin is used to set the internal oscillator frequency. Tie an 80.6k resistor from RT to GND for a 500kHz switching frequency", 10 SHDN (in) "The SHDN pin is used to shut down the switching regulator and the internal bias circuits. The 2.6V switching threshold can function as an accurate under-voltage lockout. Pull below 0.3V to shut down the LT3474/LT3474-1. Pull (See Datasheet)", 11 REF (out) "The REF pin is the buffered output of the internal reference. Either tie the REF pin to the VADJ pin for a 1A output current, or use a resistor divider to generate a lower voltage at the VADJ pin. Leave this pin unconnected (See Datasheet)", 12 VC "The Vc pin is the output of the internal error amp. The voltage on this pin controls the peak switch current. Use this pin to compensate the control loop.", 13 VADJ (in) "The VADJ pin is the input to the internal voltage to current amplifier. Connect the VADJ pin to the REF pin for a 1A output current. For lower output currents, program the VADJ pin using the following formula: ILED = 1A ?(See Datasheet)", 14 PWM (in) "The PWM pin controls the connection of the VC pin to the internal circuitry. When the PWM pin is low, the VC pin is disconnected from the internal circuitry and draws minimal current. If the PWM feature is unused, leave this (See Datasheet)", 15 GND (power) "Ground. Tie both GND pins and the Exposed Pad directly to the ground plane. The Exposed Pad metal of the package provides both electrical contact to ground and good thermal contact to the printed circuit board. It must be (See Datasheet)", 16 DNC "Do not connect external circuitry to these pins, or tie them to GND. Leave the DNC pins floating.", 17 EP (power)

## LT3474EFE-1#TRPBF
designator U?
Step-Down 1 A LED Driver, No Open Circuit Protection, 4 to 36 V Vin, 26 V Vout MAX, 16-pin SOP (FE-16-EPV-BA), -40 to 85 degC, Pb-Free, Tape and Reel; Manufacturer: Linear Technology; PartNumber: LT3474EFE-1#TRPBF; Topology: Buck, LED Driver; Vin Min(V): 4; DatasheetVersion: Rev. D; PackageVersion: Rev. I, 05/2011; PackageReference: FE-16; PackageDescription: 16-Pin Plastic TSSOP, Body 5 x 4.4 mm, Pitch 0.65 mm; Supplier 1: Digi-Key; Supplier Part Number 1: LT3474EFE-1#TRPBF-ND; Packing: Tape and Reel; RoHS: TRUE; Mounting Technology: Surface Mount; ComponentLink1Description: Manufacturer URL; ComponentLink1URL: http://www.linear.com/; ComponentLink2Description: Datasheet; ComponentLink2URL: http://cds.linear.com/docs/en/datasheet/3474fd.pdf; ComponentLink3Description: Package Specification; ComponentLink3URL: http://cds.linear.com/docs/en/packaging/05081663_J_FE16(BA).pdf
footprint LT-FE-16-EPV-BA_N (SOP, 16-Leads, Body 5x4.4mm, Pitch 0.65mm, Thermal Pad 2.74x2.74mm, IPC Medium Density)
footprint LT-FE-16-EPV-BA_L (SOP, 16-Leads, Body 5x4.4mm, Pitch 0.65mm, Thermal Pad 2.74x2.74mm, IPC High Density)
footprint LT-FE-16-EPV-BA_M (SOP, 16-Leads, Body 5x4.4mm, Pitch 0.65mm, Thermal Pad 2.74x2.74mm, IPC Low Density)
pins: 1 DNC "Do not connect external circuitry to these pins, or tie them to GND. Leave the DNC pins floating.", 2 OUT (in) "The OUT pin is the input to the current sense resistor. Connect this pin to the inductor and the output capacitor.", 3 LED (power) "The LED pin is the output of the current sense resistor. Connect the anode of the LED here.", 4 VIN (power) "The VIN pin supplies current to the internal circuitry and to the internal power switch and must be locally bypassed.", 5 SW (power) "The SW pin is the output of the internal power switch. Connect this pin to the inductor and switching diode.", 6 BOOST "The BOOST pin is used to provide a drive voltage, higher than the input voltage, to the internal bipolar NPN power switch.", 7 BIAS (power) "The BIAS pin connects through a Schottky diode to BOOST. Tie to OUT.", 8 GND (power) "Ground. Tie both GND pins and the Exposed Pad directly to the ground plane. The Exposed Pad metal of the package provides both electrical contact to ground and good thermal contact to the printed circuit board. It must be (See Datasheet)", 9 RT "The RT pin is used to set the internal oscillator frequency. Tie an 80.6k resistor from RT to GND for a 500kHz switching frequency", 10 SHDN (in) "The SHDN pin is used to shut down the switching regulator and the internal bias circuits. The 2.6V switching threshold can function as an accurate under-voltage lockout. Pull below 0.3V to shut down the LT3474/LT3474-1. Pull (See Datasheet)", 11 REF (out) "The REF pin is the buffered output of the internal reference. Either tie the REF pin to the VADJ pin for a 1A output current, or use a resistor divider to generate a lower voltage at the VADJ pin. Leave this pin unconnected (See Datasheet)", 12 VC "The Vc pin is the output of the internal error amp. The voltage on this pin controls the peak switch current. Use this pin to compensate the control loop.", 13 VADJ (in) "The VADJ pin is the input to the internal voltage to current amplifier. Connect the VADJ pin to the REF pin for a 1A output current. For lower output currents, program the VADJ pin using the following formula: ILED = 1A ?(See Datasheet)", 14 PWM (in) "The PWM pin controls the connection of the VC pin to the internal circuitry. When the PWM pin is low, the VC pin is disconnected from the internal circuitry and draws minimal current. If the PWM feature is unused, leave this (See Datasheet)", 15 GND (power) "Ground. Tie both GND pins and the Exposed Pad directly to the ground plane. The Exposed Pad metal of the package provides both electrical contact to ground and good thermal contact to the printed circuit board. It must be (See Datasheet)", 16 DNC "Do not connect external circuitry to these pins, or tie them to GND. Leave the DNC pins floating.", 17 EP (power)

## LT3474IFE
designator U?
Step-Down 1 A LED Driver with Open Circuit Protection, 4 to 36 V Vin, 15 V Vout MAX, 16-pin SOP (FE-16-EPV-BA), -40 to 125 degC; Manufacturer: Linear Technology; PartNumber: LT3474IFE; Topology: Buck, LED Driver; Vin Min(V): 4; DatasheetVersion: Rev. D; PackageVersion: Rev. I, 05/2011; PackageReference: FE-16; PackageDescription: 16-Pin Plastic TSSOP, Body 5 x 4.4 mm, Pitch 0.65 mm; RoHS: FALSE; Mounting Technology: Surface Mount; ComponentLink1Description: Manufacturer URL; ComponentLink1URL: http://www.linear.com/; ComponentLink2Description: Datasheet; ComponentLink2URL: http://cds.linear.com/docs/en/datasheet/3474fd.pdf; ComponentLink3Description: Package Specification; ComponentLink3URL: http://cds.linear.com/docs/en/packaging/05081663_J_FE16(BA).pdf
footprint LT-FE-16-EPV-BA_N (SOP, 16-Leads, Body 5x4.4mm, Pitch 0.65mm, Thermal Pad 2.74x2.74mm, IPC Medium Density)
footprint LT-FE-16-EPV-BA_L (SOP, 16-Leads, Body 5x4.4mm, Pitch 0.65mm, Thermal Pad 2.74x2.74mm, IPC High Density)
footprint LT-FE-16-EPV-BA_M (SOP, 16-Leads, Body 5x4.4mm, Pitch 0.65mm, Thermal Pad 2.74x2.74mm, IPC Low Density)
pins: 1 DNC "Do not connect external circuitry to these pins, or tie them to GND. Leave the DNC pins floating.", 2 OUT (in) "The OUT pin is the input to the current sense resistor. Connect this pin to the inductor and the output capacitor.", 3 LED (power) "The LED pin is the output of the current sense resistor. Connect the anode of the LED here.", 4 VIN (power) "The VIN pin supplies current to the internal circuitry and to the internal power switch and must be locally bypassed.", 5 SW (power) "The SW pin is the output of the internal power switch. Connect this pin to the inductor and switching diode.", 6 BOOST "The BOOST pin is used to provide a drive voltage, higher than the input voltage, to the internal bipolar NPN power switch.", 7 BIAS (power) "The BIAS pin connects through a Schottky diode to BOOST. Tie to OUT.", 8 GND (power) "Ground. Tie both GND pins and the Exposed Pad directly to the ground plane. The Exposed Pad metal of the package provides both electrical contact to ground and good thermal contact to the printed circuit board. It must be (See Datasheet)", 9 RT "The RT pin is used to set the internal oscillator frequency. Tie an 80.6k resistor from RT to GND for a 500kHz switching frequency", 10 SHDN (in) "The SHDN pin is used to shut down the switching regulator and the internal bias circuits. The 2.6V switching threshold can function as an accurate under-voltage lockout. Pull below 0.3V to shut down the LT3474/LT3474-1. Pull (See Datasheet)", 11 REF (out) "The REF pin is the buffered output of the internal reference. Either tie the REF pin to the VADJ pin for a 1A output current, or use a resistor divider to generate a lower voltage at the VADJ pin. Leave this pin unconnected (See Datasheet)", 12 VC "The Vc pin is the output of the internal error amp. The voltage on this pin controls the peak switch current. Use this pin to compensate the control loop.", 13 VADJ (in) "The VADJ pin is the input to the internal voltage to current amplifier. Connect the VADJ pin to the REF pin for a 1A output current. For lower output currents, program the VADJ pin using the following formula: ILED = 1A ?(See Datasheet)", 14 PWM (in) "The PWM pin controls the connection of the VC pin to the internal circuitry. When the PWM pin is low, the VC pin is disconnected from the internal circuitry and draws minimal current. If the PWM feature is unused, leave this (See Datasheet)", 15 GND (power) "Ground. Tie both GND pins and the Exposed Pad directly to the ground plane. The Exposed Pad metal of the package provides both electrical contact to ground and good thermal contact to the printed circuit board. It must be (See Datasheet)", 16 DNC "Do not connect external circuitry to these pins, or tie them to GND. Leave the DNC pins floating.", 17 EP (power)